# EAGLE library part R-6XXXX (library wolfi)
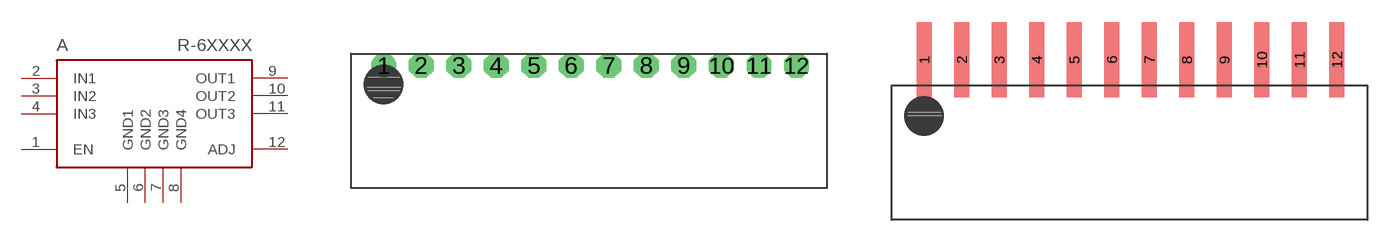
[diagram p21: symbol with the pads of R-6XXXX-P; footprints R-6XXXX-P, R-6XXXX-DS]

Designator prefix A

## R-6XXXXP  [R-6XXXX-P]
1  EN  in
2  IN1  pwr
3  IN2  pwr
4  IN3  pwr
5  GND1  pas
6  GND2  pas
7  GND3  pas
8  GND4  pas
9  OUT1  out
10  OUT2  out
11  OUT3  out
12  ADJ  pas

## R-6XXXXDS  [R-6XXXX-DS]
Pads as for R-6XXXX-P

## Footprint R-6XXXX-P (pad centres in mm)
drill 0.8 pad 1.676: 1 0,0
drill 0.8 pad 1.676 octagon: 2 2.54,0; 3 5.08,0; 4 7.62,0; 5 10.16,0; 6 12.7,0; 7 15.24,0; 8 17.78,0; 9 20.32,0; 10 22.86,0; 11 25.4,0; 12 27.94,0

## Footprint R-6XXXX-DS (pad centres in mm)
smd 1.016 x 5.08: 1 0,2.54; 2 2.54,2.54; 3 5.08,2.54; 4 7.62,2.54; 5 10.16,2.54; 6 12.7,2.54; 7 15.24,2.54; 8 17.78,2.54; 9 20.32,2.54; 10 22.86,2.54; 11 25.4,2.54; 12 27.94,2.54